# EAGLE library part TH3122 (library BMW_K-Bus)
TH3122.4
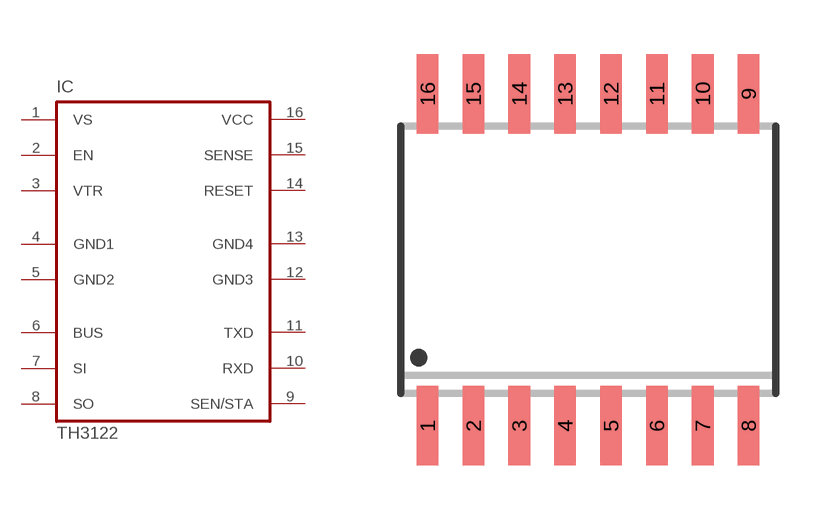
[diagram p0: symbol with the pads of TH3122; footprint TH3122]

Designator prefix IC

## TH3122.4  [TH3122]
1  VS  pwr
2  EN  in
3  VTR  in
4  GND1  pwr
5  GND2  pwr
6  BUS
7  SI  in
8  SO  out
9  SEN/STA
10  RXD  out
11  TXD  in
12  GND3  pwr
13  GND4  pwr
14  RESET  in
15  SENSE  out
16  VCC  out

## Footprint TH3122 (pad centres in mm)
TH3122
smd 0.6 x 2.2: 1 -4.445,-4.6; 2 -3.175,-4.6; 3 -1.905,-4.6; 4 -0.635,-4.6; 5 0.635,-4.6; 6 1.905,-4.6; 7 3.175,-4.6; 8 4.445,-4.6; 9 4.445,4.6; 10 3.175,4.6; 11 1.905,4.6; 12 0.635,4.6; 13 -0.635,4.6; 14 -1.905,4.6; 15 -3.175,4.6; 16 -4.445,4.6